# Altium footprint library ece components.PcbLib: 102 footprints (part 1 of 7)
Each footprint in its own frame and in the unit in brackets; x right, y up, seen from the top. Pads: shape width x height; smd on the part's side, far side on the other; paste and mask are expansions set on the pad; w line width, h text height; cw(c..) or ccw(c..) is an arc to the next point about the centre after c.
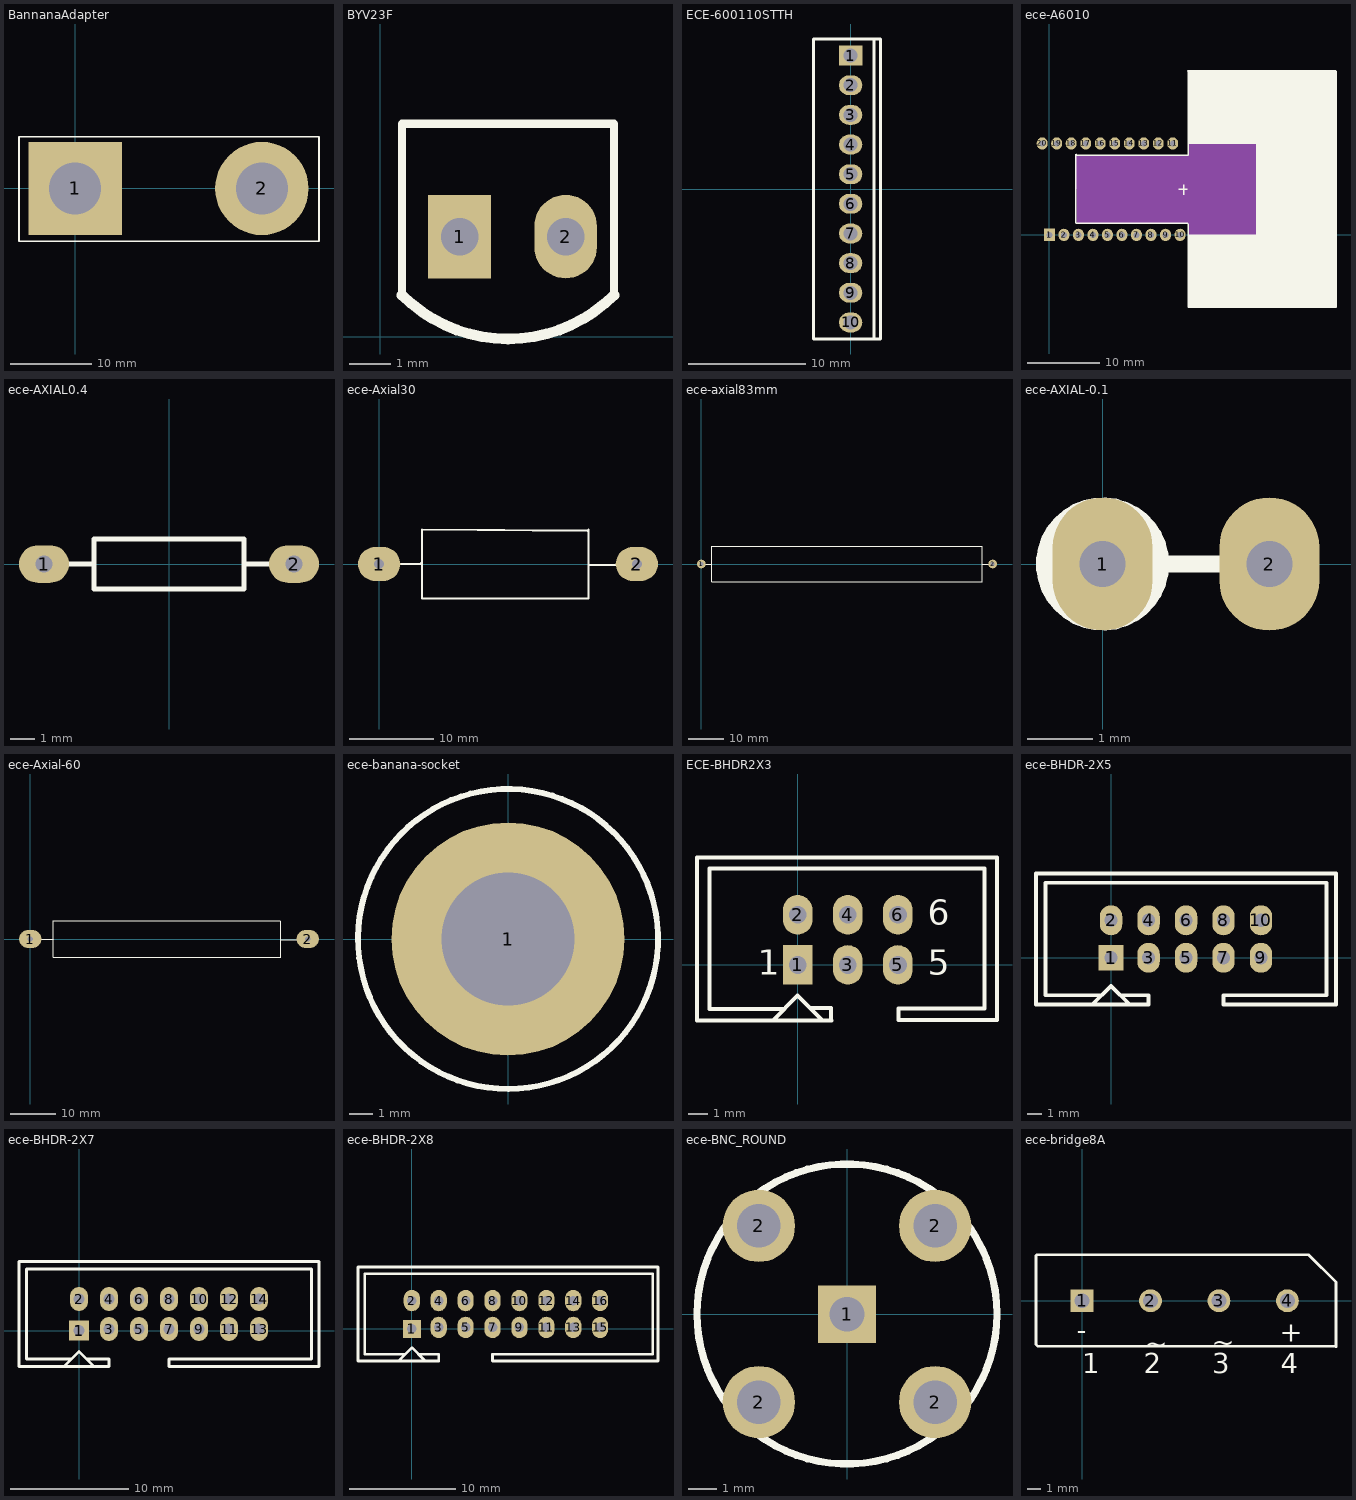
[diagram p0: the footprints below, top view; thin cyan lines are the x and y axes]

## BannanaAdapter [mm] "Connector; 2 Position"
height 10.2
pads (2):
  rect 11.43x11.43 hole 6.35: 1(0,0)
  round 11.43 hole 6.35: 2(22.86,0)
Top Overlay:
  lines w0.2: -6.858,-6.477 -6.858,6.35 29.845,6.35 29.845,-6.477 -6.858,-6.477

## BYV23F [mm] "Photodiode leaded"
height 6
pads (2):
  rect 1.5x2 hole 0.9: 1(1.9,2.4)
  oval 1.5x2 hole 0.9: 2(4.44,2.4)
Top Overlay:
  lines w0.2: 0.52,1 0.52,5.1 5.6,5.1 5.6,1
  lines w0.254: 0.52,1 ccw(c3.06,3.54) 5.6,1

## ECE-600110STTH [mm] "Polarised Header 10 way"
height 8.5
pads (10):
  rect 2x1.7 hole 1.2: 1(0,11.43)
  oval 2x1.7 hole 1.2: 2(0,8.89) 3(0,6.35) 4(0,3.81) 5(0,1.27) 6(0,-1.27) 7(0,-3.81) 8(0,-6.35) 9(0,-8.89) 10(0,-11.43)
Top Overlay:
  lines w0.254: 2,-12.85 2,12.85 ; -3.16,-12.85 2.54,-12.85 2.54,12.85 -3.16,12.85 -3.16,-12.85

## ece-A6010 [mm] "ADNS6010"
pads (20):
  rect 1.5x1.7 hole 0.8: 1(0,0)
  oval 1.5x1.7 hole 0.8: 2(2,0) 3(4,0) 4(6,0) 5(8,0) 6(10,0) 7(12,0) 8(14,0) 9(16,0) 10(18,0) 11(17,12.6) 12(15,12.6) 13(13,12.6) 14(11,12.6) 15(9,12.6) 16(7,12.6) 17(5,12.6) 18(3,12.6) 19(1,12.6) 20(-1,12.6)
Top Overlay:
  region: 19.15,12.7 19.1,22.65 39.5,22.55 39.5,-10 19.1,-9.95 19.15,-0.1 28.55,-0.05 28.55,12.55 19.15,12.6
  lines w0.2: 3.65,1.6 19.05,1.6 19.15,1.5 19.15,0.05 ; 3.75,1.6 3.65,1.7 3.65,11.1 3.75,11 19.15,11 19.15,12.55 ; 17.8,6.3 19,6.3 ; 18.5,5.55 18.5,6.9 ; 19.1,22.55 19.1,22.6 39.4,22.6 39.5,22.5 39.5,-10 19.15,-10 ; 19.15,-9.9 19.15,0.05 ; 39.4,-10 39.45,-10 ; 19.15,0.05 19.25,-0.05 28.5,-0.05 28.55,0 28.55,12.55 28.5,12.6 19.2,12.6 ; 19.15,12.55 19.15,22.5 19.15,12.65 19.2,12.6 ; 19.15,12.55 19.2,12.6
Mechanical 2:
  region: 3.65,10.95 19.15,11 19.2,12.6 28.5,12.6 28.5,0 19.15,-0.05 19.15,1.55 3.75,1.6 3.7,10.95

## ece-AXIAL0.4 [mil]
pads (2):
  oval 80x60 hole 27.56: 1(-200,0) 2(200,0)
Top Overlay:
  lines w7.87: -160,0 -120,0 ; 120,0 160,0 ; -120,-40 -120,40 120,40 120,-40 -120,-40

## ece-Axial30 [mm]
pads (2):
  oval 5x4 hole 1.2: 1(0,0) 2(30.48,0)
Top Overlay:
  lines w0.2: 0,0 5.08,0 ; 4.953,0.127 5.08,0 ; 5.08,-2.54 5.08,0 ; 5.08,2.54 5.08,0
  lines w0.254: 0,0 4.953,0 ; 5.08,-2.54 5.08,2.54 ; 5.08,0 5.08,4.064 ; 24.638,3.937 5.08,4.064 ; 24.765,-4.064 5.08,-4.064 5.08,4.064 ; 24.765,-3.937 24.765,4.064 ; 24.892,-0.127 30.607,-0.127

## ece-axial83mm [mm]
pads (2):
  round 2.5 hole 1.2: 1(0,0) 2(83,0)
Top Overlay:
  lines w0.3: 0,0 3,0 ; 80,0 83,0 ; 3,0 3,5 80,5 ; 3,0 3,-5 80,-5 80,5 ; 80,5 80,5

## ece-AXIAL-0.1 [mil]
pads (2):
  oval 60x80 hole 27.56: 1(0,0) 2(100,0)
Top Overlay:
  circle w10: c0,0 r35
  lines w10: 30,0 70,0

## ece-Axial-60 [mm]
pads (2):
  oval 5x4 hole 1.2: 1(0,0) 2(61.722,0)
Top Overlay:
  lines w0.2: 0,0 5.08,0 ; 4.953,0.127 5.08,0 ; 5.08,-2.54 5.08,0 ; 5.08,2.54 5.08,0 ; 55.88,-0.127 60.96,-0.127
  lines w0.254: 0,0 4.953,0 ; 5.08,-2.54 5.08,2.54 ; 5.08,0 5.08,4.064 ; 55.626,4.064 5.08,4.064 ; 55.753,3.937 55.753,-4.064 5.08,-4.064 5.08,4.064 ; 55.88,-0.127 61.595,-0.127

## ece-banana-socket [mm] "pcb mount banana socket"
height 12
pads (1):
  round 10 hole 5.7: 1(0,0)
Top Overlay:
  lines w0.254: 6.423,0.201 ccw(c0,0) 6.425,0.101

## ECE-BHDR2X3 [mm]
pads (6):
  rect 1.5x2 hole 0.9: 1(0,0)
  oval 1.5x2 hole 0.9 paste+0: 2(0,2.54)
  oval 1.5x2 hole 0.9: 3(2.54,0) 4(2.54,2.54) 5(5.08,0) 6(5.08,2.54)
Top Overlay:
  lines w0.2: -5.1,-2.8 -5.1,5.45 ; -4.465,4.89 -4.465,-2.24 -0.69,-2.24 ; -4.455,4.89 9.465,4.89 9.465,-2.2 ; -1.26,-2.81 0,-1.55 1.26,-2.81 ; 0.635,-2.185 1.7,-2.185 1.7,-2.8 ; 1.72,-2.82 -5.1,-2.82 -5.1,5.45 ; 5.1,-2.3 5.1,-2.8 10.1,-2.8 ; 5.1,-2.2 9.415,-2.2 ; 10.1,-2.75 10.1,5.45 ; -5.1,5.45 10.1,5.45 ; 10.1,-2.8 10.1,5.45 ; 10.1,-2.8 10.1,5.45
  text "6" at 6.604,2.032 h1.27
  text "5" at 6.604,-0.508 h1.27
  text "1" at -2.032,-0.508 h1.27

## ece-BHDR-2X5 [mil]
height 354.33
pads (10):
  rect 66.93x66.93 hole 35.43: 1(0,0)
  oval 60x80 hole 35.43: 2(0,100) 3(100,0) 4(100,100) 5(200,0) 6(200,100) 7(300,0) 8(300,100) 9(400,0) 10(400,100)
Top Overlay:
  lines w10: -50,-125 0,-75 50,-125 ; -25,-100 -175,-100 -175,200 575,200 575,-100 300,-100 300,-125 600,-125 600,225 -200,225 -200,-125 100,-125 100,-100 25,-100

## ece-BHDR-2X7 [mil]
height 354.33
pads (14):
  rect 66.93x66.93 hole 35.43: 1(0,0)
  oval 60x80 hole 35.43: 2(0,105) 3(100,5) 4(100,105) 5(200,5) 6(200,105) 7(300,5) 8(300,105) 9(400,5) 10(400,105) 11(500,5) 12(500,105) 13(600,5) 14(600,105)
Top Overlay:
  lines w10: -50,-120 0,-70 50,-120 ; -25,-95 -175,-95 -175,205 575,205 775,205 775,-95 575,-95 300,-95 300,-120 600,-120 800,-120 800,230 600,230 -200,230 -200,-120 100,-120 100,-95 25,-95

## ece-BHDR-2X8 [mil]
pads (16):
  rect 66.93x66.93 hole 35.43: 1(0,0)
  oval 60x80 hole 35.43: 2(0,105) 3(100,5) 4(100,105) 5(200,5) 6(200,105) 7(300,5) 8(300,105) 9(400,5) 10(400,105) 11(500,5) 12(500,105) 13(600,5) 14(600,105)
  oval 60x78.74 hole 35.43: 15(700,5) 16(700,105)
Top Overlay:
  lines w10: -50,-120 0,-70 50,-120 ; -25,-95 -175,-95 -175,205 575,205 775,205 895,205 895,-95 775,-95 575,-95 300,-95 300,-120 600,-120 800,-120 915,-120 915,230 800,230 600,230 -200,230 -200,-120 100,-120 100,-95 25,-95

## ece-BNC_ROUND [mm]
pads (5):
  rect 2x2 hole 1.2: 1(0,0)
  round 2.5 hole 1.5: 2(-3.05,-3.04) 2(-3.05,3.06) 2(3.05,-3.04) 2(3.05,3.06)
Top Overlay:
  circle w0.254: c0,0.01 r5.191

## ece-bridge8A [mm] "D?"
height 17.5
pads (4):
  rect 1.7x1.7 hole 1.1: 1(0,0)
  round 1.7 hole 1.1: 2(5.1,0) 3(10.2,0) 4(15.3,0)
Top Overlay:
  lines w0.2: -3.429,-1.143 -3.429,-3.243 ; -3.429,1.27 -3.429,3.37 ; 14.351,3.429 16.891,3.429 18.923,1.397 18.923,1.203 ; 14.371,3.429 -1.171,3.429 -3.37,3.429 -3.429,3.37 ; 18.923,-1.397 18.923,1.203 ; 18.923,-1.329 18.923,-3.429 ; -3.429,-3.243 -3.272,-3.4 -1.2,-3.4 16.5,-3.4 18.894,-3.4 18.923,-3.429 ; -3.429,-3.243 -3.429,3.37 ; 18.923,-3.429 18.923,1.203
  text "~" at 9.652,-3.81 h1.5
  text "~" at 4.68,-3.9 h1.5
  text "+" at 14.732,-3.048 h1.5
  text "-" at -0.381,-2.921 h1.5
  text "4" at 14.792,-5.4 h1.5
  text "3" at 9.692,-5.4 h1.5
  text "2" at 4.592,-5.4 h1.5
  text "1" at 0,-5.4 h1.5